# EAGLE library part TL072 (library EURACK-MASTER-LIB)
Generic Dual Op Amp
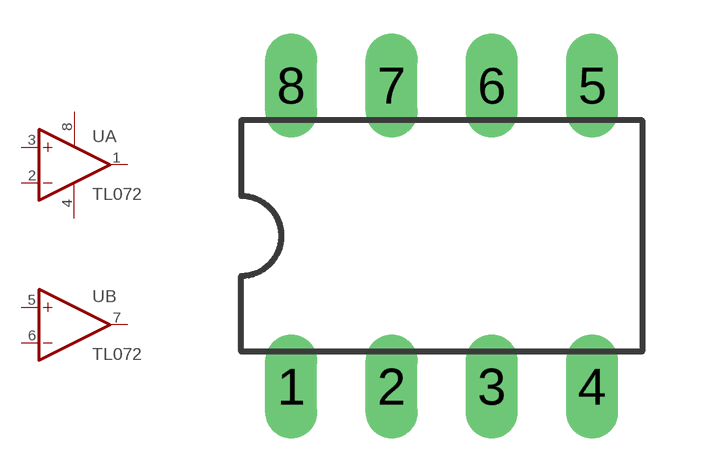
[diagram p0: symbol with the pads of DIL08; footprint DIL08]

Designator prefix U; gates A=OPAMP B=OPAMP P=PWR+-

## TL072_  [DIL08]
1  A:OUT  out
2  A:-IN  in
3  A:+IN  in
4  P:V-  pwr
5  B:+IN  in
6  B:-IN  in
7  B:OUT  out
8  P:V+  pwr

## Footprint DIL08 (pad centres in mm)
8 pin IC, DIP package
drill 0.813 pad 1.27 long: 1 -3.81,-3.81; 2 -1.27,-3.81; 3 1.27,-3.81; 4 3.81,-3.81; 5 3.81,3.81; 6 1.27,3.81; 7 -1.27,3.81; 8 -3.81,3.81